# EAGLE library part MCP16311-E/MS (library KVB-ICs)
Buck Switching Regulator IC Positive Adjustable 2V 1 Output 1A 8-TSSOP, 8-MSOP (0.118", 3.00mm Width)
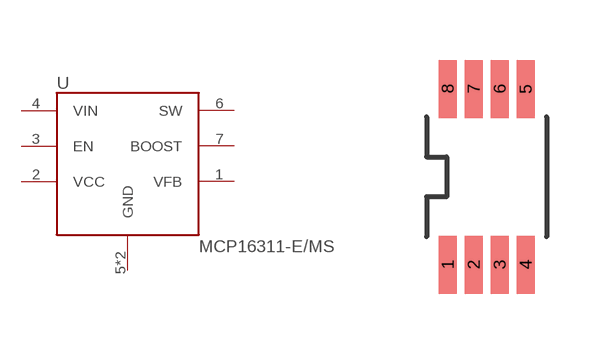
[diagram p9: symbol with the pads of MCP16311-E/MS; footprint MCP16311-E/MS]

Designator prefix U

## MCP16311-E/MS  [MCP16311-E/MS]
1  VFB
2  VCC
3  EN
4  VIN
5  GND
6  SW
7  BOOST
8  GND

## Footprint MCP16311-E/MS (pad centres in mm)
smd 0.45 x 1.45: 1 -0.975,-2.2; 2 -0.325,-2.2; 3 0.325,-2.2; 4 0.975,-2.2; 5 0.975,2.2; 6 0.325,2.2; 7 -0.325,2.2; 8 -0.975,2.2